# Altium footprint library 万年历PCB库.PcbLib: 24 footprints (part 2 of 2)
Each footprint in its own frame and in the unit in brackets; x right, y up, seen from the top. Pads: shape width x height; smd on the part's side, far side on the other; paste and mask are expansions set on the pad; w line width, h text height; cw(c..) or ccw(c..) is an arc to the next point about the centre after c.
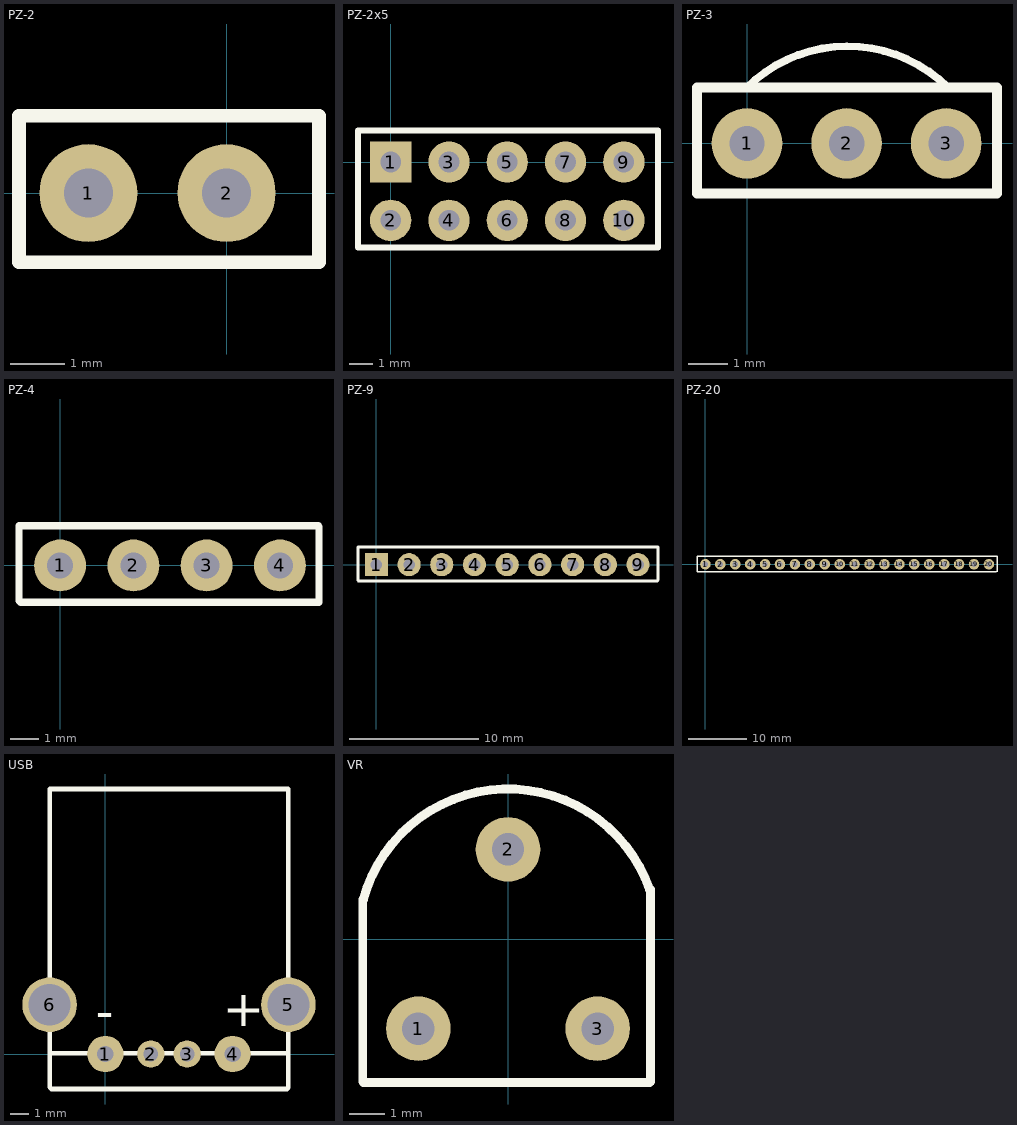
[diagram p1: the footprints below, top view; thin cyan lines are the x and y axes]

## PZ-2 [mm]
pads (2):
  round 1.8 hole 0.9: 1(-2.54,0) 2(0,0)
Top Overlay:
  lines w0.25: -3.815,-1.275 -3.815,1.425 1.7,1.425 1.7,-1.275 -3.815,-1.275

## PZ-2x5 [mm]
pads (10):
  rect 1.8x1.8 hole 0.9: 1(0,0)
  round 1.8 hole 0.9: 2(0,-2.54) 3(2.54,0) 4(2.54,-2.54) 5(5.08,0) 6(5.08,-2.54) 7(7.62,0) 8(7.62,-2.54) 9(10.16,0) 10(10.16,-2.54)
Top Overlay:
  lines w0.25: 11.65,-3.725 -1.425,-3.725 -1.425,-1.225 -1.425,1.375 11.65,1.375 11.65,-3.725 ; 11.65,-3.725 11.65,-3.725

## PZ-3 [mm]
pads (3):
  round 1.8 hole 0.9: 1(0,0) 2(2.54,0) 3(5.08,0)
Top Overlay:
  lines w0.2: -0.025,1.4 cw(c2.563,-1.162) 5.125,1.425
  lines w0.25: -1.275,-1.275 6.375,-1.275 6.375,1.425 -1.275,1.425 -1.275,-1.275

## PZ-4 [mm]
pads (4):
  round 1.8 hole 0.9: 1(0,0) 2(2.54,0) 3(5.08,0) 4(7.62,0)
Top Overlay:
  lines w0.25: -1.425,-1.225 -1.425,1.375 8.95,1.375 8.975,1.35 8.975,-1.275 -1.375,-1.275 -1.425,-1.225

## PZ-9 [mm]
pads (9):
  rect 1.8x1.8 hole 0.9: 1(0,0)
  round 1.8 hole 0.9: 2(2.54,0) 3(5.08,0) 4(7.62,0) 5(10.16,0) 6(12.7,0) 7(15.24,0) 8(17.78,0) 9(20.32,0)
Top Overlay:
  lines w0.25: -1.425,-1.225 -1.425,1.375 21.875,1.375 21.875,-1.2 21.8,-1.275 -1.375,-1.275 -1.425,-1.225

## PZ-20 [mm]
pads (20):
  round 1.8 hole 0.9: 1(0,0) 2(2.54,0) 3(5.08,0) 4(7.62,0) 5(10.16,0) 6(12.7,0) 7(15.24,0) 8(17.78,0) 9(20.32,0) 10(22.86,0) 11(25.4,0) 12(27.94,0) 13(30.48,0) 14(33.02,0) 15(35.56,0) 16(38.1,0) 17(40.64,0) 18(43.18,0) 19(45.72,0) 20(48.26,0)
Top Overlay:
  lines w0.25: 49.525,-1.275 -1.375,-1.275 -1.425,-1.225 -1.425,1.375 49.635,1.375 49.635,-1.275

## USB [mm]
pads (6):
  round 2 hole 0.9: 1(0,0) 4(7,0)
  round 1.5 hole 0.8: 2(2.5,0) 3(4.5,0)
  round 3 hole 2.3: 5(10.07,2.71) 6(-3.07,2.71)
Top Overlay:
  lines w0.25: -3.07,0.05 10,0.05 10.025,0.075 ; 10.07,2.71 10.07,14.495 ; 10.07,3.925 10.07,-1.845 9.99,-1.925 -2.965,-1.925 -3.07,-1.82 -3.07,2.71 -3.07,14.57 -3.065,14.575 10.07,14.575
  text "+" at 6.45,1.525 h2
  text "-" at -0.525,1.4 h2

## VR [mm]
pads (3):
  round 1.8 hole 0.9: 1(-2.5,-2.5) 2(0,2.5) 3(2.5,-2.5)
Top Overlay:
  lines w0.25: -4.05,1.105 -4.05,-3.975 -4.025,-4 3.95,-4 3.975,-3.975 3.975,1.376 ; -4.034,1.105 cw(c0,0) 3.949,1.376